# EAGLE library part ATSAMD20J18A-AU (library KVB-MCUs)
ARM® Cortex®-M0+ SAM D20J Microcontroller IC 32-Bit 48MHz 256KB (256K x 8) FLASH 64-LQFP (10x10)
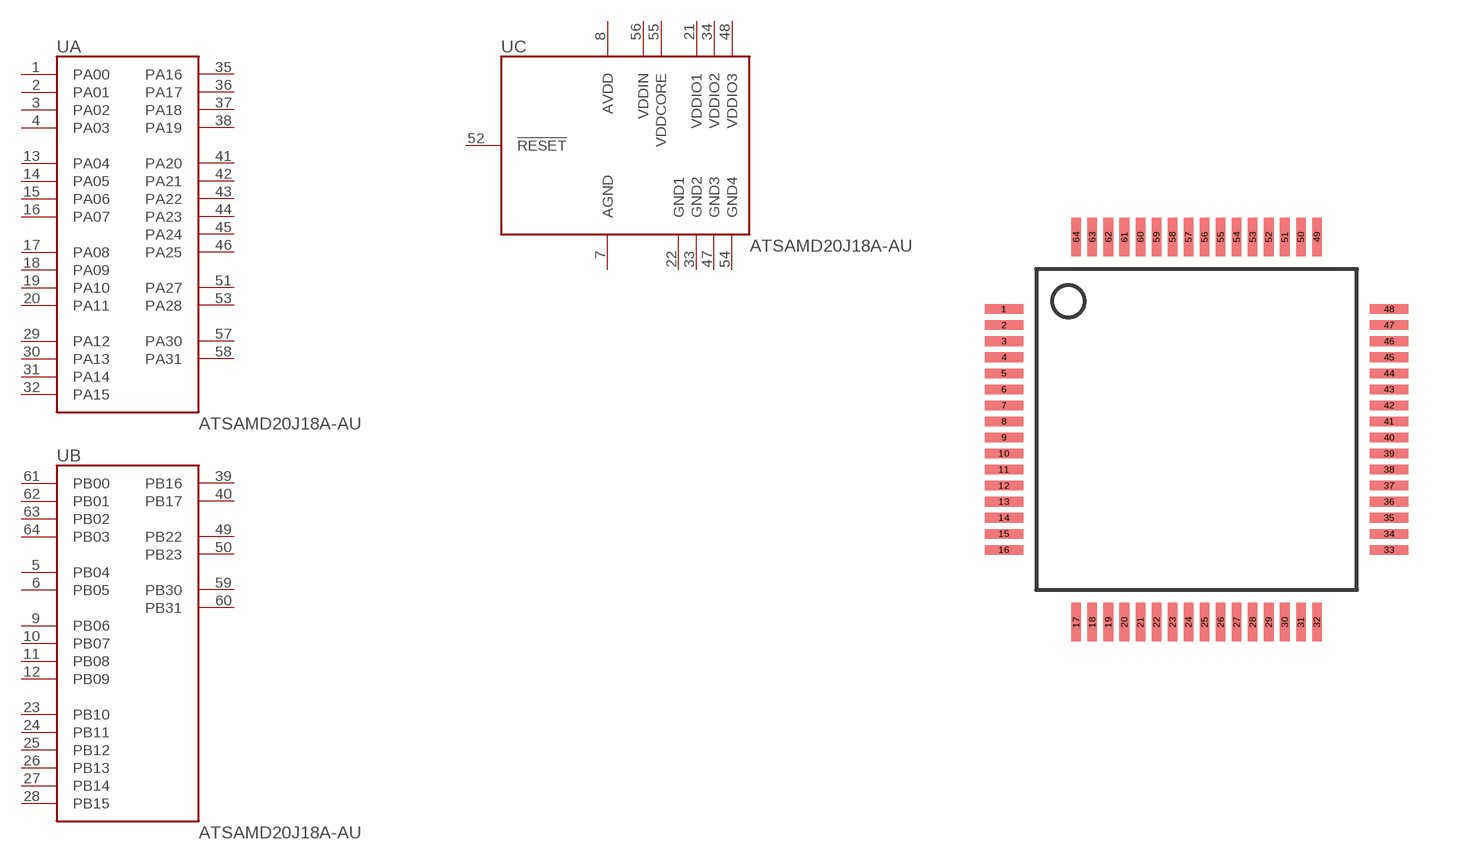
[diagram p5: symbol with the pads of ATSAMD20J18-AU; footprint ATSAMD20J18-AU]

Designator prefix U; gates A=ATSAMD20J-A B=ATSAMD20J-B C=ATSAMD20J-C

## ATSAMD20J18A-AU (MAN-PART_NUM: ATSAMD20J18A-AU; MANUFACTURER: Atmel)  [ATSAMD20J18-AU]
1  A:PA00
2  A:PA01
3  A:PA02
4  A:PA03
5  B:PB04
6  B:PB05
7  C:AGND
8  C:AVDD
9  B:PB06
10  B:PB07
11  B:PB08
12  B:PB09
13  A:PA04
14  A:PA05
15  A:PA06
16  A:PA07
17  A:PA08
18  A:PA09
19  A:PA10
20  A:PA11
21  C:VDDIO1
22  C:GND1
23  B:PB10
24  B:PB11
25  B:PB12
26  B:PB13
27  B:PB14
28  B:PB15
29  A:PA12
30  A:PA13
31  A:PA14
32  A:PA15
33  C:GND2
34  C:VDDIO2
35  A:PA16
36  A:PA17
37  A:PA18
38  A:PA19
39  B:PB16
40  B:PB17
41  A:PA20
42  A:PA21
43  A:PA22
44  A:PA23
45  A:PA24
46  A:PA25
47  C:GND3
48  C:VDDIO3
49  B:PB22
50  B:PB23
51  A:PA27
52  C:!RESET
53  A:PA28
54  C:GND4
55  C:VDDCORE
56  C:VDDIN
57  A:PA30
58  A:PA31
59  B:PB30
60  B:PB31
61  B:PB00
62  B:PB01
63  B:PB02
64  B:PB03

## Footprint ATSAMD20J18-AU (pad centres in mm)
smd 1.2 x 0.3: 1 -6,3.75; 2 -6,3.25; 3 -6,2.75; 4 -6,2.25; 5 -6,1.75; 6 -6,1.25; 7 -6,0.75; 8 -6,0.25; 9 -6,-0.25; 10 -6,-0.75; 11 -6,-1.25; 12 -6,-1.75; 13 -6,-2.25; 14 -6,-2.75; 15 -6,-3.25; 16 -6,-3.75; 33 6,-3.75; 34 6,-3.25; 35 6,-2.75; 36 6,-2.25; 37 6,-1.75; 38 6,-1.25; 39 6,-0.75; 40 6,-0.25; 41 6,0.25; 42 6,0.75; 43 6,1.25; 44 6,1.75; 45 6,2.25; 46 6,2.75; 47 6,3.25; 48 6,3.75
smd 0.3 x 1.2: 17 -3.75,-6; 18 -3.25,-6; 19 -2.75,-6; 20 -2.25,-6; 21 -1.75,-6; 22 -1.25,-6; 23 -0.75,-6; 24 -0.25,-6; 25 0.25,-6; 26 0.75,-6; 27 1.25,-6; 28 1.75,-6; 29 2.25,-6; 30 2.75,-6; 31 3.25,-6; 32 3.75,-6; 49 3.75,6; 50 3.25,6; 51 2.75,6; 52 2.25,6; 53 1.75,6; 54 1.25,6; 55 0.75,6; 56 0.25,6; 57 -0.25,6; 58 -0.75,6; 59 -1.25,6; 60 -1.75,6; 61 -2.25,6; 62 -2.75,6; 63 -3.25,6; 64 -3.75,6